# EAGLE library part FYQ-4042AD-11 (library components)
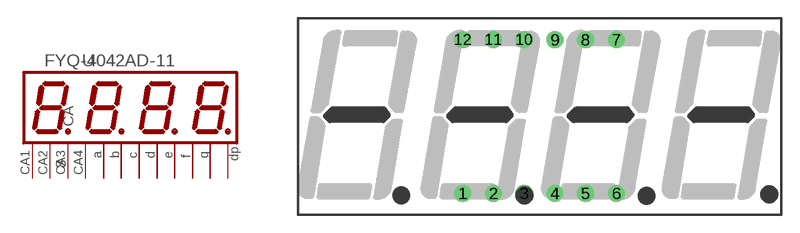
[diagram p1: symbol with the pads of KB-4SEG; footprint KB-4SEG]

Designator prefix -

## FYQ-4042AD-11  [KB-4SEG]
1  E  pas
2  D  pas
3  DP  pas
4  C  pas
5  G  pas
6  CA  pas
7  B  pas
8  CA  pas
9  CA  pas
10  F  pas
11  A  pas
12  CA  pas

## Footprint KB-4SEG (pad centres in mm)
drill 0.8 pad 1.422: 1 -6.35,-6.35; 2 -3.81,-6.35; 3 -1.27,-6.35; 4 1.27,-6.35; 5 3.81,-6.35; 6 6.35,-6.35; 7 6.35,6.35; 8 3.81,6.35; 9 1.27,6.35; 10 -1.27,6.35; 11 -3.81,6.35; 12 -6.35,6.35